# EAGLE library part LMR21220 (library Janus-IC)
LMR24220TL 28 Pin BGA Footprint
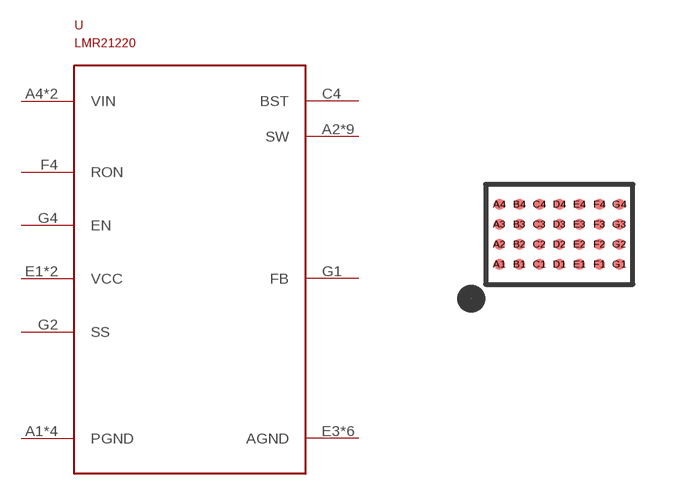
[diagram p0: symbol with the pads of 28-WFBGA; footprint 28-WFBGA]

Designator prefix U

## LMR21220  [28-WFBGA]
A1  PGND
A2  SW
A3  SW
A4  VIN
B1  PGND
B2  SW
B3  SW
B4  VIN
C1  PGND
C2  SW
C3  SW
C4  BST
D1  PGND
D2  SW
D3  SW
D4  SW
E1  VCC
E2  VCC
E3  AGND
E4  AGND
F1  AGND
F2  AGND
F3  AGND
F4  RON
G1  FB
G2  SS
G3  AGND
G4  EN

## Footprint 28-WFBGA (pad centres in mm)
smd 0.275 x 0.275: A1 0,0; A2 0,0.5; A3 0,1; A4 0,1.5; B1 0.5,0; B2 0.5,0.5; B3 0.5,1; B4 0.5,1.5; C1 1,0; C2 1,0.5; C3 1,1; C4 1,1.5; D1 1.5,0; D2 1.5,0.5; D3 1.5,1; D4 1.5,1.5; E1 2,0; E2 2,0.5; E3 2,1; E4 2,1.5; F1 2.5,0; F2 2.5,0.5; F3 2.5,1; F4 2.5,1.5; G1 3,0; G2 3,0.5; G3 3,1; G4 3,1.5